# Altium footprint library OLED_SMALL.PcbLib: 1 footprints
Each footprint in its own frame and in the unit in brackets; x right, y up, seen from the top. Pads: shape width x height; smd on the part's side, far side on the other; paste and mask are expansions set on the pad; w line width, h text height; cw(c..) or ccw(c..) is an arc to the next point about the centre after c.
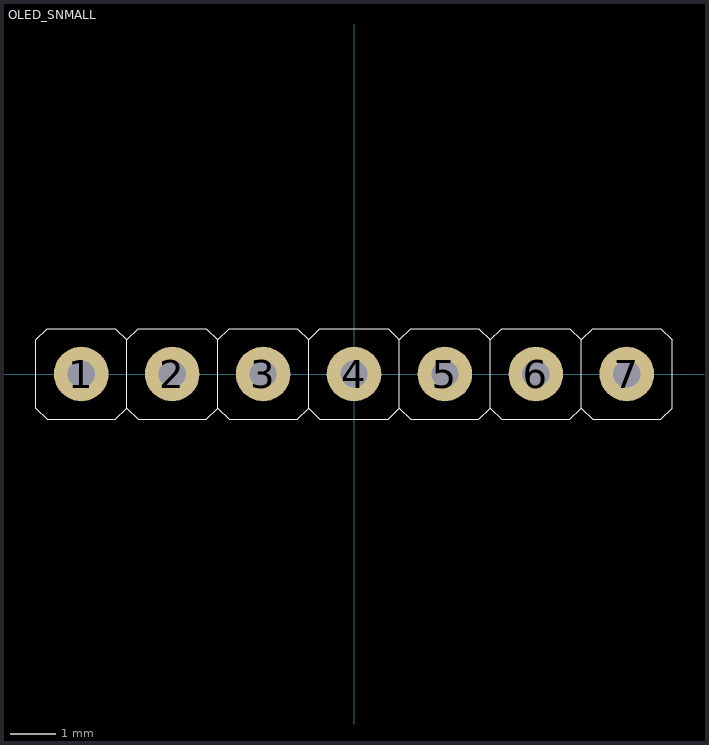
[diagram p0: the footprint, top view; thin cyan lines are the x and y axes]

## OLED_SNMALL [mm]
pads (7):
  round 1.2 hole 0.6: 1(-6,0) 2(-4,0) 3(-2,0) 4(0,0) 5(2,0) 6(4,0) 7(6,0)
Top Overlay:
  lines w0.01: -7,0.75 -6.75,1 -5.25,1 -5,0.75 ; -7,0.75 -7,0.75 ; -7,0.75 -7,-0.75 -6.75,-1 -5.25,-1 -5,-0.75 ; -5,-0.75 -5,0.75 ; -5,-0.75 -4.75,-1 -3.25,-1 -3,-0.75 ; -5,0.75 -4.75,1 -3.25,1 -3,0.75 ; -3,-0.75 -3,0.75 ; -3,-0.75 -3,-0.75 ; -3,-0.75 -2.75,-1 -1.25,-1 -1,-0.75 ; -3,0.75 -2.75,1 -1.25,1 -1,0.75 ; -1,-0.75 -1,0.75 ; -1,-0.75 -0.75,-1 0.625,-1 0.75,-1 1,-0.75 ; -1,0.75 -0.75,1 0.625,1 0.75,1 1,0.75 ; 1,-0.75 1.25,-1 2.75,-1 3,-0.75 ; 1,-0.75 1,-0.725 1,0.75 ; 1,0.75 1.25,1 2.75,1 3,0.75 ; 3,-0.75 3,0.75 ; 3,-0.75 3.25,-1 4.75,-1 5,-0.75 ; 3,0.75 3,0.75 ; 3,0.75 3.25,1 4.75,1 5,0.75 ; 3,0.75 3,0.75 ; 5,-0.75 5,0.75 ; 5,-0.75 5.25,-1 6.75,-1 7,-0.75 ; 5,0.75 5.25,1 6.75,1 7,0.75 ; 7,-0.75 7,0.75 ; 7,-0.75 7,0.75